# Altium integrated library Analog_Devices_Power_Management_Linear_Regulators.IntLib: 441 symbols (part 2 of 23)
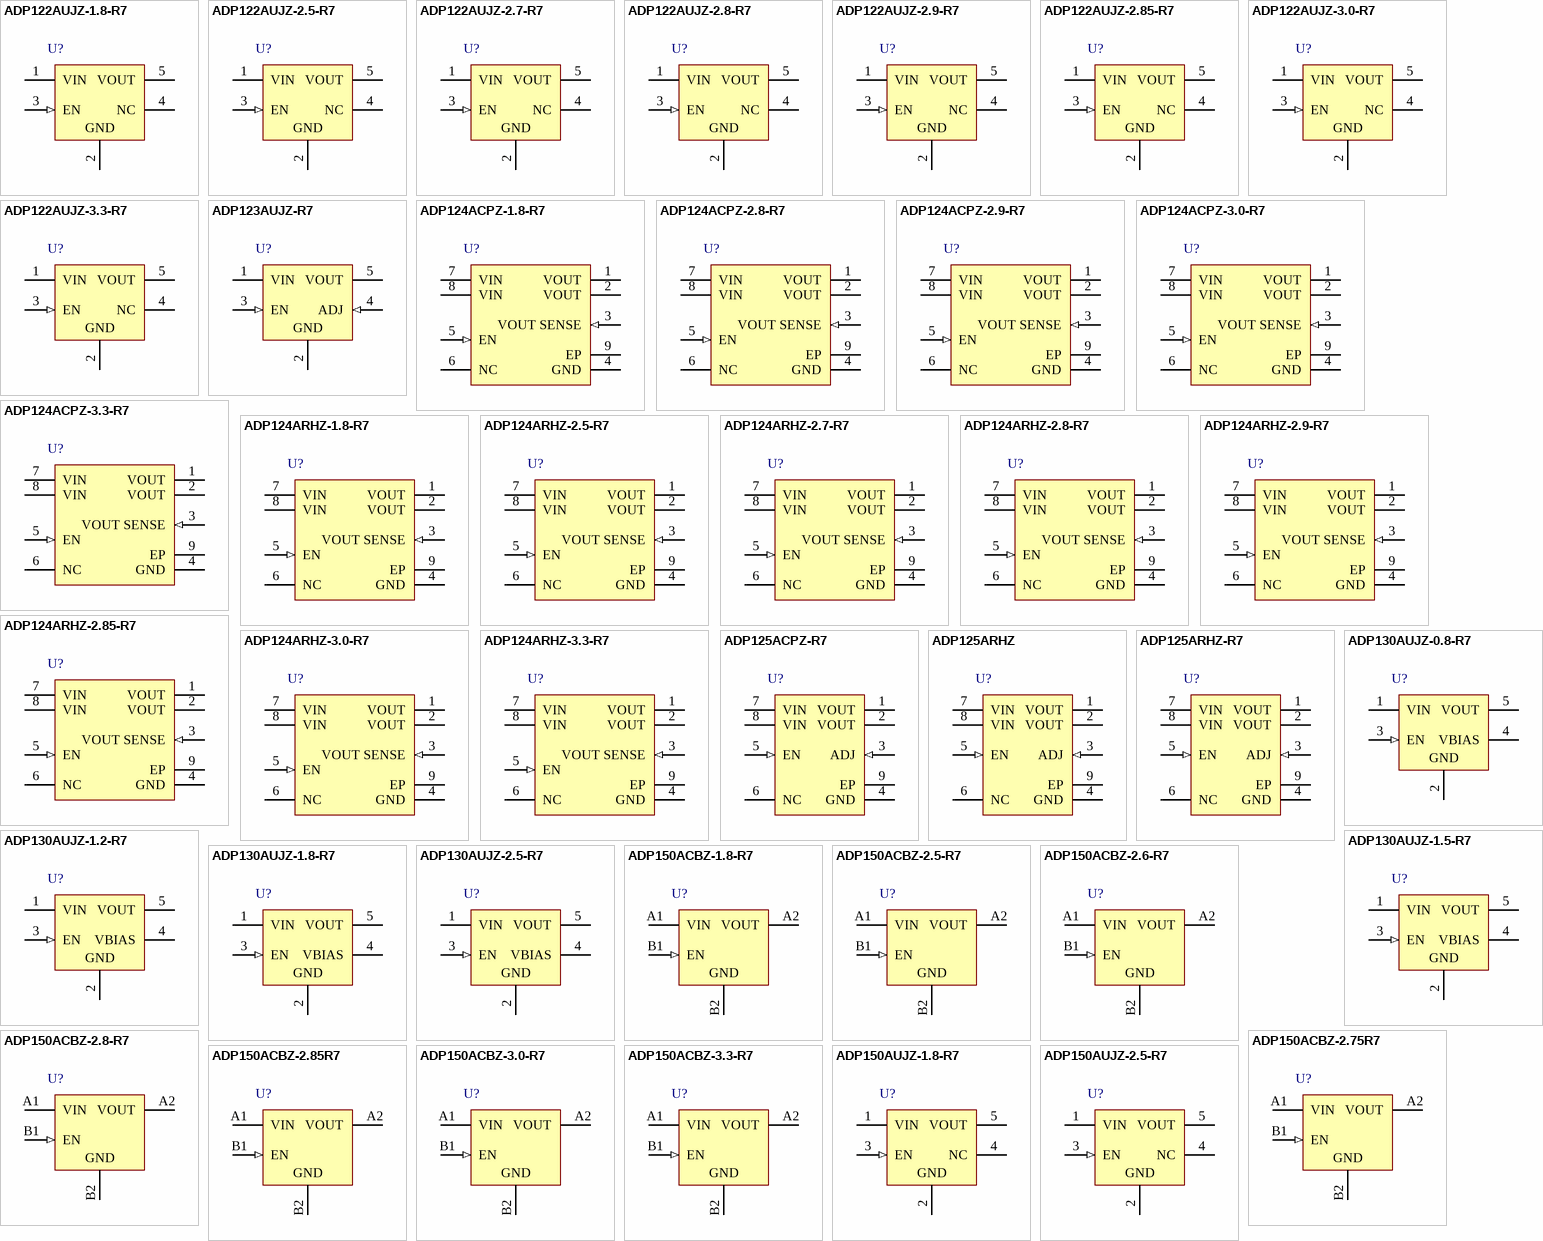
[diagram p12: symbols ADP122AUJZ-1.8-R7 to ADP150AUJZ-2.5-R7]

## ADP124ARHZ-3.3-R7
designator U?
500 mA, Low Quiescent Current, CMOS Linear Regulator, 2.3 to 5.5 V Vin, 3.3 V Vout, Industrial, 8-pin SOP (RH-8-1), Reel; Manufacturer: Analog Devices; PartNumber: ADP124ARHZ-3.3-R7; Iout max: 500mA; Preset Vout Values (V): 3.3; Supply Current IGND @ Small Load: 45uA; Vin (max) (V): 5.5; Vin (min) (V): 2.3; DatasheetVersion: Rev. C; PackageVersion: 071008-A, 08/2008; PackageReference: RH-8-1; PackageDescription: 8-Pin Mini Small Outline Package, Body 3 x 3 mm, Pitch 0.65 mm; Supplier 1: Digi-Key; Supplier Part Number 1: ADP124ARHZ-3.3-R7TR-ND; Supplier 2: Digi-Key; Supplier Part Number 2: ADP124ARHZ-3.3-R7CT-ND; Supplier 3: Digi-Key; Supplier Part Number 3: ADP124ARHZ-3.3-R7DKR-ND; Supplier 4: Farnell; Supplier Part Number 4: 1827296; Supplier 5: Farnell; Supplier Part Number 5: 1827296RL; Supplier 6: Newark; Supplier Part Number 6: 69R7644; Supplier 7: Newark; Supplier Part Number 7: 63R9752; Supplier 8: Mouser; Supplier Part Number 8: 584-ADP124ARHZ-3.3R7; Packing: Reel; Mounting Technology: Surface Mount; Code_JEDEC: MO-187-AA-T; ComponentLink1Description: Manufacturer URL; ComponentLink1URL: http://www.analog.com/en/index.html; ComponentLink2Description: Datasheet; ComponentLink2URL: http://www.analog.com/static/imported-files/data_sheets/ADP124_125.pdf; ComponentLink3Description: Package Specification; ComponentLink3URL: http://www.analog.com/static/imported-files/packages/PKG_PDF/MSOP_ED(RH)/RH_8_1.pdf; ComponentLink4Description: URL Link1; ComponentLink4URL: Product URL:http://www.analog.com/en/ADP124/productSearch.html
footprint ADI-RH-8-1_N (SOP, 8-Leads, Body 3x3mm, Pitch 0.65mm, Thermal Pad 1.73x2.16mm, IPC Medium Density)
footprint ADI-RH-8-1_L (SOP, 8-Leads, Body 3x3mm, Pitch 0.65mm, Thermal Pad 1.73x2.16mm, IPC High Density)
footprint ADI-RH-8-1_M (SOP, 8-Leads, Body 3x3mm, Pitch 0.65mm, Thermal Pad 1.73x2.16mm, IPC Low Density)
pins: 1 VOUT (power) "Regulated Output Voltage. Bypass VOUT to GND with a 1 uF or greater capacitor.", 2 VOUT (power) "Regulated Output Voltage. Bypass VOUT to GND with a 1 uF or greater capacitor.", 3 VOUT SENSE (in) "Feedback Node for the Error Amplifier. Connect to VOUT", 4 GND (power) "Ground.", 5 EN (in) "Enable Input. Drive EN high to turn on the regulator; drive EN low to turn off the regulator. For automatic startup, connect EN to VIN.", 6 NC "No Connect. This pin is not connected internally.", 7 VIN (power) "Regulator Input Supply. Bypass VIN to GND with a 1 uF or greater capacitor.", 8 VIN (power) "Regulator Input Supply. Bypass VIN to GND with a 1 uF or greater capacitor.", 9 EP (power) "The exposed pad must be connected to ground."

## ADP125ACPZ-R7
designator U?
500 mA, Low Quiescent Current, CMOS Linear Regulator, 2.3 to 5.5 V Vin, 0.8 to 5 V Vout, Industrial, 8-pin SON (CP-8-8), Reel; Manufacturer: Analog Devices; PartNumber: ADP125ACPZ-R7; Iout max: 500mA; Supply Current IGND @ Small Load: 45uA; Vin (max) (V): 5.5; Vin (min) (V): 2.3; Vout Adjustable Range: 0.8V to 5V; DatasheetVersion: Rev. C; PackageVersion: 101028-A, 10/2008; PackageReference: CP-8-8; PackageDescription: 8-Pin Lead Frame Chip Scale Package, Body 2 x 2 mm, Pitch 0.5 mm; Supplier 1: Digi-Key; Supplier Part Number 1: ADP125ACPZ-R7TR-ND; Supplier 2: Digi-Key; Supplier Part Number 2: ADP125ACPZ-R7CT-ND; Supplier 3: Digi-Key; Supplier Part Number 3: ADP125ACPZ-R7DKR-ND; Supplier 4: Newark; Supplier Part Number 4: 18T2009; Supplier 5: Mouser; Supplier Part Number 5: 584-ADP125ACPZ-R7; Packing: Reel; Mounting Technology: Surface Mount; ComponentLink1Description: Manufacturer URL; ComponentLink1URL: http://www.analog.com/en/index.html; ComponentLink2Description: Datasheet; ComponentLink2URL: http://www.analog.com/static/imported-files/data_sheets/ADP124_125.pdf; ComponentLink3Description: Package Specification; ComponentLink3URL: http:/www.analog.com/static/imported-files/packages/PKG_PDF/LFCSP(CP)/CP_8_8.pdf; ComponentLink4Description: URL Link1; ComponentLink4URL: Product URL:http://www.analog.com/en/ADP125/productSearch.html
footprint ADI-CP-8-8_V (SON, 8-Leads, Body 2x2mm, Pitch 0.5mm, Thermal Pad 1.6x1mm)
pins: 1 VOUT (power) "Regulated Output Voltage. Bypass VOUT to GND with a 1 uF or greater capacitor.", 2 VOUT (power) "Regulated Output Voltage. Bypass VOUT to GND with a 1 uF or greater capacitor.", 3 ADJ (in) "Feedback Node for the Error Amplifier. Connect the midpoint of an external divider from VOUT to GND to this pin to set the output voltage", 4 GND (power) "Ground.", 5 EN (in) "Enable Input. Drive EN high to turn on the regulator; drive EN low to turn off the regulator. For automatic startup, connect EN to VIN.", 6 NC "No Connect. This pin is not connected internally.", 7 VIN (power) "Regulator Input Supply. Bypass VIN to GND with a 1 uF or greater capacitor.", 8 VIN (power) "Regulator Input Supply. Bypass VIN to GND with a 1 uF or greater capacitor.", 9 EP (power) "The exposed pad must be connected to ground."

## ADP125ARHZ
designator U?
500 mA, Low Quiescent Current, CMOS Linear Regulator, 2.3 to 5.5 V Vin, 0.8 to 5 V Vout, Industrial, 8-pin SOP (RH-8-1), Tube; Manufacturer: Analog Devices; PartNumber: ADP125ARHZ; Iout max: 500mA; Supply Current IGND @ Small Load: 45uA; Vin (max) (V): 5.5; Vin (min) (V): 2.3; Vout Adjustable Range: 0.8V to 5V; DatasheetVersion: Rev. C; PackageVersion: 071008-A, 08/2008; PackageReference: RH-8-1; PackageDescription: 8-Pin Mini Small Outline Package, Body 3 x 3 mm, Pitch 0.65 mm; Supplier 1: Digi-Key; Supplier Part Number 1: ADP125ARHZ-ND; Supplier 2: Mouser; Supplier Part Number 2: 584-ADP125ARHZ; Packing: Tube; Mounting Technology: Surface Mount; Code_JEDEC: MO-187-AA-T; ComponentLink1Description: Manufacturer URL; ComponentLink1URL: http://www.analog.com/en/index.html; ComponentLink2Description: Datasheet; ComponentLink2URL: http://www.analog.com/static/imported-files/data_sheets/ADP124_125.pdf; ComponentLink3Description: Package Specification; ComponentLink3URL: http://www.analog.com/static/imported-files/packages/PKG_PDF/MSOP_ED(RH)/RH_8_1.pdf; ComponentLink4Description: URL Link1; ComponentLink4URL: Product URL:http://www.analog.com/en/ADP125/productSearch.html
footprint ADI-RH-8-1_N (SOP, 8-Leads, Body 3x3mm, Pitch 0.65mm, Thermal Pad 1.73x2.16mm, IPC Medium Density)
footprint ADI-RH-8-1_L (SOP, 8-Leads, Body 3x3mm, Pitch 0.65mm, Thermal Pad 1.73x2.16mm, IPC High Density)
footprint ADI-RH-8-1_M (SOP, 8-Leads, Body 3x3mm, Pitch 0.65mm, Thermal Pad 1.73x2.16mm, IPC Low Density)
pins: 1 VOUT (power) "Regulated Output Voltage. Bypass VOUT to GND with a 1 uF or greater capacitor.", 2 VOUT (power) "Regulated Output Voltage. Bypass VOUT to GND with a 1 uF or greater capacitor.", 3 ADJ (in) "Feedback Node for the Error Amplifier. Connect the midpoint of an external divider from VOUT to GND to this pin to set the output voltage", 4 GND (power) "Ground.", 5 EN (in) "Enable Input. Drive EN high to turn on the regulator; drive EN low to turn off the regulator. For automatic startup, connect EN to VIN.", 6 NC "No Connect. This pin is not connected internally.", 7 VIN (power) "Regulator Input Supply. Bypass VIN to GND with a 1 uF or greater capacitor.", 8 VIN (power) "Regulator Input Supply. Bypass VIN to GND with a 1 uF or greater capacitor.", 9 EP (power) "The exposed pad must be connected to ground."

## ADP125ARHZ-R7
designator U?
500 mA, Low Quiescent Current, CMOS Linear Regulator, 2.3 to 5.5 V Vin, 0.8 to 5 V Vout, Industrial, 8-pin SOP (RH-8-1), Reel; Manufacturer: Analog Devices; PartNumber: ADP125ARHZ-R7; Iout max: 500mA; Supply Current IGND @ Small Load: 45uA; Vin (max) (V): 5.5; Vin (min) (V): 2.3; Vout Adjustable Range: 0.8V to 5V; DatasheetVersion: Rev. C; PackageVersion: 071008-A, 08/2008; PackageReference: RH-8-1; PackageDescription: 8-Pin Mini Small Outline Package, Body 3 x 3 mm, Pitch 0.65 mm; Supplier 1: Digi-Key; Supplier Part Number 1: ADP125ARHZ-R7TR-ND; Supplier 2: Digi-Key; Supplier Part Number 2: ADP125ARHZ-R7CT-ND; Supplier 3: Digi-Key; Supplier Part Number 3: ADP125ARHZ-R7DKR-ND; Supplier 4: Farnell; Supplier Part Number 4: 1827298; Supplier 5: Newark; Supplier Part Number 5: 81R1681; Supplier 6: Newark; Supplier Part Number 6: 63R9754; Supplier 7: Mouser; Supplier Part Number 7: 584-ADP125ARHZ-R7; Packing: Reel; Mounting Technology: Surface Mount; Code_JEDEC: MO-187-AA-T; ComponentLink1Description: Manufacturer URL; ComponentLink1URL: http://www.analog.com/en/index.html; ComponentLink2Description: Datasheet; ComponentLink2URL: http://www.analog.com/static/imported-files/data_sheets/ADP124_125.pdf; ComponentLink3Description: Package Specification; ComponentLink3URL: http://www.analog.com/static/imported-files/packages/PKG_PDF/MSOP_ED(RH)/RH_8_1.pdf; ComponentLink4Description: URL Link1; ComponentLink4URL: Product URL:http://www.analog.com/en/ADP125/productSearch.html
footprint ADI-RH-8-1_N (SOP, 8-Leads, Body 3x3mm, Pitch 0.65mm, Thermal Pad 1.73x2.16mm, IPC Medium Density)
footprint ADI-RH-8-1_L (SOP, 8-Leads, Body 3x3mm, Pitch 0.65mm, Thermal Pad 1.73x2.16mm, IPC High Density)
footprint ADI-RH-8-1_M (SOP, 8-Leads, Body 3x3mm, Pitch 0.65mm, Thermal Pad 1.73x2.16mm, IPC Low Density)
pins: 1 VOUT (power) "Regulated Output Voltage. Bypass VOUT to GND with a 1 uF or greater capacitor.", 2 VOUT (power) "Regulated Output Voltage. Bypass VOUT to GND with a 1 uF or greater capacitor.", 3 ADJ (in) "Feedback Node for the Error Amplifier. Connect the midpoint of an external divider from VOUT to GND to this pin to set the output voltage", 4 GND (power) "Ground.", 5 EN (in) "Enable Input. Drive EN high to turn on the regulator; drive EN low to turn off the regulator. For automatic startup, connect EN to VIN.", 6 NC "No Connect. This pin is not connected internally.", 7 VIN (power) "Regulator Input Supply. Bypass VIN to GND with a 1 uF or greater capacitor.", 8 VIN (power) "Regulator Input Supply. Bypass VIN to GND with a 1 uF or greater capacitor.", 9 EP (power) "The exposed pad must be connected to ground."

## ADP130AUJZ-0.8-R7
designator U?
350 mA, Low VIN, Low Quiescent Current, CMOS Linear Regulator, 1.2 to 3.6 V Vin, 0.8 V Vout, Industrial, 5-pin SOT23 (UJ-5), Reel; Manufacturer: Analog Devices; PartNumber: ADP130AUJZ-0.8-R7; Iout max: 350mA; Preset Vout Values (V): 0.8; Supply Current IGND @ Small Load: 25uA; Vin (max) (V): 3.6; Vin (min) (V): 1.2; DatasheetVersion: Rev. C; PackageVersion: 100708-A, 10/2008; PackageReference: UJ-5; PackageDescription: 5-Pin Thin Small Outline Transistor Package, Body 2.9 x 1.6 mm, Pitch 0.95 mm; Supplier 1: Digi-Key; Supplier Part Number 1: ADP130AUJZ-0.8-R7TR-ND; Supplier 2: Digi-Key; Supplier Part Number 2: ADP130AUJZ-0.8-R7CT-ND; Supplier 3: Digi-Key; Supplier Part Number 3: ADP130AUJZ-0.8-R7DKR-ND; Supplier 4: Mouser; Supplier Part Number 4: 584-ADP130AUJZ-0.8R7; Packing: Reel; Mounting Technology: Surface Mount; Code_JEDEC: MO-193-AB; ComponentLink1Description: Manufacturer URL; ComponentLink1URL: http://www.analog.com/en/index.html; ComponentLink2Description: Datasheet; ComponentLink2URL: http://www.analog.com/static/imported-files/data_sheets/ADP130.pdf; ComponentLink3Description: Package Specification; ComponentLink3URL: http:/www.analog.com/static/imported-files/packages/PKG_PDF/TSOT(UJ)/UJ_5.pdf; ComponentLink4Description: URL Link1; ComponentLink4URL: Product URL:http://www.analog.com/en/ADP130/productSearch.html
footprint ADI-UJ-5_N (SOT23, 5-Leads, Body 2.9x1.6mm, Pitch 0.95mm, IPC Medium Density)
footprint ADI-UJ-5_L (SOT23, 5-Leads, Body 2.9x1.6mm, Pitch 0.95mm, IPC High Density)
footprint ADI-UJ-5_M (SOT23, 5-Leads, Body 2.9x1.6mm, Pitch 0.95mm, IPC Low Density)
pins: 1 VIN (power) "Regulator Input Supply. Bypass VIN to GND with a capacitor of 1 uF or greater.", 2 GND (power) "Ground.", 3 EN (in) "Enable Input. Drive EN high to turn on the regulator; drive EN low to turn off the regulator. For automatic startup, connect EN to VBIAS", 4 VBIAS (power) "Bias Input Supply. Connect a capacitor of 1 uF or greater between VBIAS and GND.", 5 VOUT (power) "Regulated Output Voltage. Bypass VOUT to GND with a capacitor of 1 uF or greater."

## ADP130AUJZ-1.2-R7
designator U?
350 mA, Low VIN, Low Quiescent Current, CMOS Linear Regulator, 1.2 to 3.6 V Vin, 1.2 V Vout, Industrial, 5-pin SOT23 (UJ-5), Reel; Manufacturer: Analog Devices; PartNumber: ADP130AUJZ-1.2-R7; Iout max: 350mA; Preset Vout Values (V): 1.2; Supply Current IGND @ Small Load: 25uA; Vin (max) (V): 3.6; DatasheetVersion: Rev. C; PackageVersion: 100708-A, 10/2008; PackageReference: UJ-5; PackageDescription: 5-Pin Thin Small Outline Transistor Package, Body 2.9 x 1.6 mm, Pitch 0.95 mm; Supplier 1: Digi-Key; Supplier Part Number 1: ADP130AUJZ-1.2-R7TR-ND; Supplier 2: Digi-Key; Supplier Part Number 2: ADP130AUJZ-1.2-R7CT-ND; Supplier 3: Digi-Key; Supplier Part Number 3: ADP130AUJZ-1.2-R7DKR-ND; Supplier 4: Farnell; Supplier Part Number 4: 2312870; Supplier 5: Newark; Supplier Part Number 5: 07P8899; Supplier 6: Newark; Supplier Part Number 6: 67W2683; Supplier 7: Mouser; Supplier Part Number 7: 584-ADP130AUJZ-1.2R7; Packing: Reel; Vin (min) (V): 1.2; Mounting Technology: Surface Mount; Code_JEDEC: MO-193-AB; ComponentLink1Description: Manufacturer URL; ComponentLink1URL: http://www.analog.com/en/index.html; ComponentLink2Description: Datasheet; ComponentLink2URL: http://www.analog.com/static/imported-files/data_sheets/ADP130.pdf; ComponentLink3Description: Package Specification; ComponentLink3URL: http:/www.analog.com/static/imported-files/packages/PKG_PDF/TSOT(UJ)/UJ_5.pdf; ComponentLink4Description: URL Link1; ComponentLink4URL: Product URL:http://www.analog.com/en/ADP130/productSearch.html
footprint ADI-UJ-5_N (SOT23, 5-Leads, Body 2.9x1.6mm, Pitch 0.95mm, IPC Medium Density)
footprint ADI-UJ-5_L (SOT23, 5-Leads, Body 2.9x1.6mm, Pitch 0.95mm, IPC High Density)
footprint ADI-UJ-5_M (SOT23, 5-Leads, Body 2.9x1.6mm, Pitch 0.95mm, IPC Low Density)
pins: 1 VIN (power) "Regulator Input Supply. Bypass VIN to GND with a capacitor of 1 uF or greater.", 2 GND (power) "Ground.", 3 EN (in) "Enable Input. Drive EN high to turn on the regulator; drive EN low to turn off the regulator. For automatic startup, connect EN to VBIAS", 4 VBIAS (power) "Bias Input Supply. Connect a capacitor of 1 uF or greater between VBIAS and GND.", 5 VOUT (power) "Regulated Output Voltage. Bypass VOUT to GND with a capacitor of 1 uF or greater."

## ADP130AUJZ-1.5-R7
designator U?
350 mA, Low VIN, Low Quiescent Current, CMOS Linear Regulator, 1.2 to 3.6 V Vin, 1.5 V Vout, Industrial, 5-pin SOT23 (UJ-5), Reel; Manufacturer: Analog Devices; PartNumber: ADP130AUJZ-1.5-R7; Iout max: 350mA; Preset Vout Values (V): 1.5; Supply Current IGND @ Small Load: 25uA; Vin (max) (V): 3.6; Vin (min) (V): 1.2; DatasheetVersion: Rev. C; PackageVersion: 100708-A, 10/2008; PackageReference: UJ-5; PackageDescription: 5-Pin Thin Small Outline Transistor Package, Body 2.9 x 1.6 mm, Pitch 0.95 mm; Supplier 1: Digi-Key; Supplier Part Number 1: ADP130AUJZ-1.5-R7TR-ND; Supplier 2: Digi-Key; Supplier Part Number 2: ADP130AUJZ-1.5-R7CT-ND; Supplier 3: Digi-Key; Supplier Part Number 3: ADP130AUJZ-1.5-R7DKR-ND; Supplier 4: Newark; Supplier Part Number 4: 07P8900; Supplier 5: Mouser; Supplier Part Number 5: 584-ADP130AUJZ-1.5R7; Packing: Reel; Mounting Technology: Surface Mount; Code_JEDEC: MO-193-AB; ComponentLink1Description: Manufacturer URL; ComponentLink1URL: http://www.analog.com/en/index.html; ComponentLink2Description: Datasheet; ComponentLink2URL: http://www.analog.com/static/imported-files/data_sheets/ADP130.pdf; ComponentLink3Description: Package Specification; ComponentLink3URL: http:/www.analog.com/static/imported-files/packages/PKG_PDF/TSOT(UJ)/UJ_5.pdf; ComponentLink4Description: URL Link1; ComponentLink4URL: Product URL:http://www.analog.com/en/ADP130/productSearch.html
footprint ADI-UJ-5_N (SOT23, 5-Leads, Body 2.9x1.6mm, Pitch 0.95mm, IPC Medium Density)
footprint ADI-UJ-5_L (SOT23, 5-Leads, Body 2.9x1.6mm, Pitch 0.95mm, IPC High Density)
footprint ADI-UJ-5_M (SOT23, 5-Leads, Body 2.9x1.6mm, Pitch 0.95mm, IPC Low Density)
pins: 1 VIN (power) "Regulator Input Supply. Bypass VIN to GND with a capacitor of 1 uF or greater.", 2 GND (power) "Ground.", 3 EN (in) "Enable Input. Drive EN high to turn on the regulator; drive EN low to turn off the regulator. For automatic startup, connect EN to VBIAS", 4 VBIAS (power) "Bias Input Supply. Connect a capacitor of 1 uF or greater between VBIAS and GND.", 5 VOUT (power) "Regulated Output Voltage. Bypass VOUT to GND with a capacitor of 1 uF or greater."

## ADP130AUJZ-1.8-R7
designator U?
350 mA, Low VIN, Low Quiescent Current, CMOS Linear Regulator, 1.2 to 3.6 V Vin, 1.8 V Vout, Industrial, 5-pin SOT23 (UJ-5), Reel; Manufacturer: Analog Devices; PartNumber: ADP130AUJZ-1.8-R7; Iout max: 350mA; Preset Vout Values (V): 1.8; Supply Current IGND @ Small Load: 25uA; Vin (max) (V): 3.6; Vin (min) (V): 1.2; DatasheetVersion: Rev. C; PackageVersion: 100708-A, 10/2008; PackageReference: UJ-5; PackageDescription: 5-Pin Thin Small Outline Transistor Package, Body 2.9 x 1.6 mm, Pitch 0.95 mm; Supplier 1: Digi-Key; Supplier Part Number 1: ADP130AUJZ-1.8-R7TR-ND; Supplier 2: Digi-Key; Supplier Part Number 2: ADP130AUJZ-1.8-R7CT-ND; Supplier 3: Digi-Key; Supplier Part Number 3: ADP130AUJZ-1.8-R7DKR-ND; Supplier 4: Newark; Supplier Part Number 4: 07P8901; Supplier 5: Mouser; Supplier Part Number 5: 584-ADP130AUJZ-1.8R7; Packing: Reel; Mounting Technology: Surface Mount; Code_JEDEC: MO-193-AB; ComponentLink1Description: Manufacturer URL; ComponentLink1URL: http://www.analog.com/en/index.html; ComponentLink2Description: Datasheet; ComponentLink2URL: http://www.analog.com/static/imported-files/data_sheets/ADP130.pdf; ComponentLink3Description: Package Specification; ComponentLink3URL: http:/www.analog.com/static/imported-files/packages/PKG_PDF/TSOT(UJ)/UJ_5.pdf; ComponentLink4Description: URL Link1; ComponentLink4URL: Product URL:http://www.analog.com/en/ADP130/productSearch.html
footprint ADI-UJ-5_N (SOT23, 5-Leads, Body 2.9x1.6mm, Pitch 0.95mm, IPC Medium Density)
footprint ADI-UJ-5_L (SOT23, 5-Leads, Body 2.9x1.6mm, Pitch 0.95mm, IPC High Density)
footprint ADI-UJ-5_M (SOT23, 5-Leads, Body 2.9x1.6mm, Pitch 0.95mm, IPC Low Density)
pins: 1 VIN (power) "Regulator Input Supply. Bypass VIN to GND with a capacitor of 1 uF or greater.", 2 GND (power) "Ground.", 3 EN (in) "Enable Input. Drive EN high to turn on the regulator; drive EN low to turn off the regulator. For automatic startup, connect EN to VBIAS", 4 VBIAS (power) "Bias Input Supply. Connect a capacitor of 1 uF or greater between VBIAS and GND.", 5 VOUT (power) "Regulated Output Voltage. Bypass VOUT to GND with a capacitor of 1 uF or greater."

## ADP130AUJZ-2.5-R7
designator U?
350 mA, Low VIN, Low Quiescent Current, CMOS Linear Regulator, 1.2 to 3.6 V Vin, 2.5 V Vout, Industrial, 5-pin SOT23 (UJ-5), Reel; Manufacturer: Analog Devices; PartNumber: ADP130AUJZ-2.5-R7; Iout max: 350mA; Preset Vout Values (V): 2.5; Supply Current IGND @ Small Load: 25uA; Vin (max) (V): 3.6; Vin (min) (V): 1.2; DatasheetVersion: Rev. C; PackageVersion: 100708-A, 10/2008; PackageReference: UJ-5; PackageDescription: 5-Pin Thin Small Outline Transistor Package, Body 2.9 x 1.6 mm, Pitch 0.95 mm; Supplier 1: Digi-Key; Supplier Part Number 1: ADP130AUJZ-2.5-R7TR-ND; Supplier 2: Digi-Key; Supplier Part Number 2: ADP130AUJZ-2.5-R7CT-ND; Supplier 3: Digi-Key; Supplier Part Number 3: ADP130AUJZ-2.5-R7DKR-ND; Supplier 4: Newark; Supplier Part Number 4: 07P8902; Supplier 5: Newark; Supplier Part Number 5: 10R7025; Supplier 6: Mouser; Supplier Part Number 6: 584-ADP130AUJZ-2.5R7; Packing: Reel; Mounting Technology: Surface Mount; Code_JEDEC: MO-193-AB; ComponentLink1Description: Manufacturer URL; ComponentLink1URL: http://www.analog.com/en/index.html; ComponentLink2Description: Datasheet; ComponentLink2URL: http://www.analog.com/static/imported-files/data_sheets/ADP130.pdf; ComponentLink3Description: Package Specification; ComponentLink3URL: http:/www.analog.com/static/imported-files/packages/PKG_PDF/TSOT(UJ)/UJ_5.pdf; ComponentLink4Description: URL Link1; ComponentLink4URL: Product URL:http://www.analog.com/en/ADP130/productSearch.html
footprint ADI-UJ-5_N (SOT23, 5-Leads, Body 2.9x1.6mm, Pitch 0.95mm, IPC Medium Density)
footprint ADI-UJ-5_L (SOT23, 5-Leads, Body 2.9x1.6mm, Pitch 0.95mm, IPC High Density)
footprint ADI-UJ-5_M (SOT23, 5-Leads, Body 2.9x1.6mm, Pitch 0.95mm, IPC Low Density)
pins: 1 VIN (power) "Regulator Input Supply. Bypass VIN to GND with a capacitor of 1 uF or greater.", 2 GND (power) "Ground.", 3 EN (in) "Enable Input. Drive EN high to turn on the regulator; drive EN low to turn off the regulator. For automatic startup, connect EN to VBIAS", 4 VBIAS (power) "Bias Input Supply. Connect a capacitor of 1 uF or greater between VBIAS and GND.", 5 VOUT (power) "Regulated Output Voltage. Bypass VOUT to GND with a capacitor of 1 uF or greater."

## ADP150ACBZ-1.8-R7
designator U?
Ultralow Noise, 150 mA CMOS Linear Regulator, 2.2 to 5.5 V Vin, 1.8 V Vout, Industrial, 4-pin BGA (CB-4-3), Reel; Manufacturer: Analog Devices; PartNumber: ADP150ACBZ-1.8-R7; Iout max: 150mA; Preset Vout Values (V): 1.8; Supply Current IGND @ Small Load: 10uA; Vin (max) (V): 5.5; Vin (min) (V): 2.2; DatasheetVersion: Rev. A; PackageVersion: 011409-A, 01/2009; PackageReference: CB-4-3; PackageDescription: 4-Ball Wafer Level Chip Scale Package, Body 0.76 x 0.76 mm, Pitch 0.4 mm; Supplier 1: Digi-Key; Supplier Part Number 1: ADP150ACBZ-1.8-R7TR-ND; Supplier 2: Digi-Key; Supplier Part Number 2: ADP150ACBZ-1.8-R7CT-ND; Supplier 3: Digi-Key; Supplier Part Number 3: ADP150ACBZ-1.8-R7DKR-ND; Supplier 4: Newark; Supplier Part Number 4: 23T4162; Supplier 5: Mouser; Supplier Part Number 5: 584-ADP150ACBZ-1.8R7; Packing: Reel; Mounting Technology: Surface Mount; ComponentLink1Description: Manufacturer URL; ComponentLink1URL: http://www.analog.com/en/index.html; ComponentLink2Description: Datasheet; ComponentLink2URL: http://www.analog.com/static/imported-files/data_sheets/ADP150.pdf; ComponentLink3Description: Package Specification; ComponentLink3URL: http:/www.analog.com/static/imported-files/packages/PKG_PDF/WLCSP(CB)/CB_4_3.pdf; ComponentLink4Description: URL Link1; ComponentLink4URL: Product URL:http://www.analog.com/en/ADP150/productSearch.html
footprint ADI-CB-4-3 (BGA, 4-Balls, Body 0.76x0.76mm, Pitch 0.4mm)
pins: A1 VIN (power) "Regulator Input Supply. Bypass VIN to GND with a 1 uF or greater capacitor", A2 VOUT (power) "Regulated Output Voltage. Bypass VOUT to GND with a 1 uF or greater capacitor", B1 EN (in) "Enable Input. Drive EN high to turn on the regulator; drive EN low to turn off the regulator. For automatic startup, connect EN to VIN.", B2 GND (power) "Ground"

## ADP150ACBZ-2.5-R7
designator U?
Ultralow Noise, 150 mA CMOS Linear Regulator, 2.2 to 5.5 V Vin, 2.5 V Vout, Industrial, 4-pin BGA (CB-4-3), Reel; Manufacturer: Analog Devices; PartNumber: ADP150ACBZ-2.5-R7; Iout max: 150mA; Preset Vout Values (V): 2.5; Supply Current IGND @ Small Load: 10uA; Vin (max) (V): 5.5; Vin (min) (V): 2.2; DatasheetVersion: Rev. A; PackageVersion: 011409-A, 01/2009; PackageReference: CB-4-3; PackageDescription: 4-Ball Wafer Level Chip Scale Package, Body 0.76 x 0.76 mm, Pitch 0.4 mm; Supplier 1: Digi-Key; Supplier Part Number 1: ADP150ACBZ-2.5-R7TR-ND; Supplier 2: Digi-Key; Supplier Part Number 2: ADP150ACBZ-2.5-R7CT-ND; Supplier 3: Digi-Key; Supplier Part Number 3: ADP150ACBZ-2.5-R7DKR-ND; Supplier 4: Newark; Supplier Part Number 4: 51R0670; Supplier 5: Mouser; Supplier Part Number 5: 584-ADP150ACBZ-2.5R7; Packing: Reel; Mounting Technology: Surface Mount; ComponentLink1Description: Manufacturer URL; ComponentLink1URL: http://www.analog.com/en/index.html; ComponentLink2Description: Datasheet; ComponentLink2URL: http://www.analog.com/static/imported-files/data_sheets/ADP150.pdf; ComponentLink3Description: Package Specification; ComponentLink3URL: http:/www.analog.com/static/imported-files/packages/PKG_PDF/WLCSP(CB)/CB_4_3.pdf; ComponentLink4Description: URL Link1; ComponentLink4URL: Product URL:http://www.analog.com/en/ADP150/productSearch.html
footprint ADI-CB-4-3 (BGA, 4-Balls, Body 0.76x0.76mm, Pitch 0.4mm)
pins: A1 VIN (power) "Regulator Input Supply. Bypass VIN to GND with a 1 uF or greater capacitor", A2 VOUT (power) "Regulated Output Voltage. Bypass VOUT to GND with a 1 uF or greater capacitor", B1 EN (in) "Enable Input. Drive EN high to turn on the regulator; drive EN low to turn off the regulator. For automatic startup, connect EN to VIN.", B2 GND (power) "Ground"

## ADP150ACBZ-2.6-R7
designator U?
Ultralow Noise, 150 mA CMOS Linear Regulator, 2.2 to 5.5 V Vin, 2.6 V Vout, Industrial, 4-pin BGA (CB-4-3), Reel; Manufacturer: Analog Devices; PartNumber: ADP150ACBZ-2.6-R7; Iout max: 150mA; Preset Vout Values (V): 2.6; Supply Current IGND @ Small Load: 10uA; Vin (max) (V): 5.5; Vin (min) (V): 2.2; DatasheetVersion: Rev. A; PackageVersion: 011409-A, 01/2009; PackageReference: CB-4-3; PackageDescription: 4-Ball Wafer Level Chip Scale Package, Body 0.76 x 0.76 mm, Pitch 0.4 mm; Supplier 1: Digi-Key; Supplier Part Number 1: ADP150ACBZ-2.6-R7TR-ND; Supplier 2: Digi-Key; Supplier Part Number 2: ADP150ACBZ-2.6-R7CT-ND; Supplier 3: Digi-Key; Supplier Part Number 3: ADP150ACBZ-2.6-R7DKR-ND; Supplier 4: Mouser; Supplier Part Number 4: 584-ADP150ACBZ-2.6R7; Packing: Reel; Mounting Technology: Surface Mount; ComponentLink1Description: Manufacturer URL; ComponentLink1URL: http://www.analog.com/en/index.html; ComponentLink2Description: Datasheet; ComponentLink2URL: http://www.analog.com/static/imported-files/data_sheets/ADP150.pdf; ComponentLink3Description: Package Specification; ComponentLink3URL: http:/www.analog.com/static/imported-files/packages/PKG_PDF/WLCSP(CB)/CB_4_3.pdf; ComponentLink4Description: URL Link1; ComponentLink4URL: Product URL:http://www.analog.com/en/ADP150/productSearch.html
footprint ADI-CB-4-3 (BGA, 4-Balls, Body 0.76x0.76mm, Pitch 0.4mm)
pins: A1 VIN (power) "Regulator Input Supply. Bypass VIN to GND with a 1 uF or greater capacitor", A2 VOUT (power) "Regulated Output Voltage. Bypass VOUT to GND with a 1 uF or greater capacitor", B1 EN (in) "Enable Input. Drive EN high to turn on the regulator; drive EN low to turn off the regulator. For automatic startup, connect EN to VIN.", B2 GND (power) "Ground"

## ADP150ACBZ-2.8-R7
designator U?
Ultralow Noise, 150 mA CMOS Linear Regulator, 2.2 to 5.5 V Vin, 2.8 V Vout, Industrial, 4-pin BGA (CB-4-3), Reel; Manufacturer: Analog Devices; PartNumber: ADP150ACBZ-2.8-R7; Iout max: 150mA; Preset Vout Values (V): 2.8; Supply Current IGND @ Small Load: 10uA; Vin (max) (V): 5.5; Vin (min) (V): 2.2; DatasheetVersion: Rev. A; PackageVersion: 011409-A, 01/2009; PackageReference: CB-4-3; PackageDescription: 4-Ball Wafer Level Chip Scale Package, Body 0.76 x 0.76 mm, Pitch 0.4 mm; Supplier 1: Digi-Key; Supplier Part Number 1: ADP150ACBZ-2.8-R7TR-ND; Supplier 2: Digi-Key; Supplier Part Number 2: ADP150ACBZ-2.8-R7CT-ND; Supplier 3: Digi-Key; Supplier Part Number 3: ADP150ACBZ-2.8-R7DKR-ND; Supplier 4: Newark; Supplier Part Number 4: 51R0671; Supplier 5: Mouser; Supplier Part Number 5: 584-ADP150ACBZ-2.8R7; Packing: Reel; Mounting Technology: Surface Mount; ComponentLink1Description: Manufacturer URL; ComponentLink1URL: http://www.analog.com/en/index.html; ComponentLink2Description: Datasheet; ComponentLink2URL: http://www.analog.com/static/imported-files/data_sheets/ADP150.pdf; ComponentLink3Description: Package Specification; ComponentLink3URL: http:/www.analog.com/static/imported-files/packages/PKG_PDF/WLCSP(CB)/CB_4_3.pdf; ComponentLink4Description: URL Link1; ComponentLink4URL: Product URL:http://www.analog.com/en/ADP150/productSearch.html
footprint ADI-CB-4-3 (BGA, 4-Balls, Body 0.76x0.76mm, Pitch 0.4mm)
pins: A1 VIN (power) "Regulator Input Supply. Bypass VIN to GND with a 1 uF or greater capacitor", A2 VOUT (power) "Regulated Output Voltage. Bypass VOUT to GND with a 1 uF or greater capacitor", B1 EN (in) "Enable Input. Drive EN high to turn on the regulator; drive EN low to turn off the regulator. For automatic startup, connect EN to VIN.", B2 GND (power) "Ground"

## ADP150ACBZ-2.75R7
designator U?
Ultralow Noise, 150 mA CMOS Linear Regulator, 2.2 to 5.5 V Vin, 2.75 V Vout, Industrial, 4-pin BGA (CB-4-3), Reel; Manufacturer: Analog Devices; PartNumber: ADP150ACBZ-2.75R7; Iout max: 150mA; Preset Vout Values (V): 2.75; Supply Current IGND @ Small Load: 10uA; Vin (max) (V): 5.5; Vin (min) (V): 2.2; DatasheetVersion: Rev. A; PackageVersion: 011409-A, 01/2009; PackageReference: CB-4-3; PackageDescription: 4-Ball Wafer Level Chip Scale Package, Body 0.76 x 0.76 mm, Pitch 0.4 mm; Supplier 1: Digi-Key; Supplier Part Number 1: ADP150ACBZ-2.75R7TR-ND; Supplier 2: Digi-Key; Supplier Part Number 2: ADP150ACBZ-2.75R7CT-ND; Supplier 3: Digi-Key; Supplier Part Number 3: ADP150ACBZ-2.75R7DKR-ND; Supplier 4: Mouser; Supplier Part Number 4: 584-ADP150ACBZ2.75R7; Packing: Reel; Mounting Technology: Surface Mount; ComponentLink1Description: Manufacturer URL; ComponentLink1URL: http://www.analog.com/en/index.html; ComponentLink2Description: Datasheet; ComponentLink2URL: http://www.analog.com/static/imported-files/data_sheets/ADP150.pdf; ComponentLink3Description: Package Specification; ComponentLink3URL: http:/www.analog.com/static/imported-files/packages/PKG_PDF/WLCSP(CB)/CB_4_3.pdf; ComponentLink4Description: URL Link1; ComponentLink4URL: Product URL:http://www.analog.com/en/ADP150/productSearch.html
footprint ADI-CB-4-3 (BGA, 4-Balls, Body 0.76x0.76mm, Pitch 0.4mm)
pins: A1 VIN (power) "Regulator Input Supply. Bypass VIN to GND with a 1 uF or greater capacitor", A2 VOUT (power) "Regulated Output Voltage. Bypass VOUT to GND with a 1 uF or greater capacitor", B1 EN (in) "Enable Input. Drive EN high to turn on the regulator; drive EN low to turn off the regulator. For automatic startup, connect EN to VIN.", B2 GND (power) "Ground"

## ADP150ACBZ-2.85R7
designator U?
Ultralow Noise, 150 mA CMOS Linear Regulator, 2.2 to 5.5 V Vin, 2.85 V Vout, Industrial, 4-pin BGA (CB-4-3), Reel; Manufacturer: Analog Devices; PartNumber: ADP150ACBZ-2.85R7; Iout max: 150mA; Preset Vout Values (V): 2.85; Supply Current IGND @ Small Load: 10uA; Vin (max) (V): 5.5; Vin (min) (V): 2.2; DatasheetVersion: Rev. A; PackageVersion: 011409-A, 01/2009; PackageReference: CB-4-3; PackageDescription: 4-Ball Wafer Level Chip Scale Package, Body 0.76 x 0.76 mm, Pitch 0.4 mm; Supplier 1: Digi-Key; Supplier Part Number 1: ADP150ACBZ-2.85R7TR-ND; Supplier 2: Digi-Key; Supplier Part Number 2: ADP150ACBZ-2.85R7CT-ND; Supplier 3: Digi-Key; Supplier Part Number 3: ADP150ACBZ-2.85R7DKR-ND; Supplier 4: Mouser; Supplier Part Number 4: 584-ADP150ACBZ2.85R7; Packing: Reel; Mounting Technology: Surface Mount; ComponentLink1Description: Manufacturer URL; ComponentLink1URL: http://www.analog.com/en/index.html; ComponentLink2Description: Datasheet; ComponentLink2URL: http://www.analog.com/static/imported-files/data_sheets/ADP150.pdf; ComponentLink3Description: Package Specification; ComponentLink3URL: http:/www.analog.com/static/imported-files/packages/PKG_PDF/WLCSP(CB)/CB_4_3.pdf; ComponentLink4Description: URL Link1; ComponentLink4URL: Product URL:http://www.analog.com/en/ADP150/productSearch.html
footprint ADI-CB-4-3 (BGA, 4-Balls, Body 0.76x0.76mm, Pitch 0.4mm)
pins: A1 VIN (power) "Regulator Input Supply. Bypass VIN to GND with a 1 uF or greater capacitor", A2 VOUT (power) "Regulated Output Voltage. Bypass VOUT to GND with a 1 uF or greater capacitor", B1 EN (in) "Enable Input. Drive EN high to turn on the regulator; drive EN low to turn off the regulator. For automatic startup, connect EN to VIN.", B2 GND (power) "Ground"

## ADP150ACBZ-3.0-R7
designator U?
Ultralow Noise, 150 mA CMOS Linear Regulator, 2.2 to 5.5 V Vin, 3 V Vout, Industrial, 4-pin BGA (CB-4-3), Reel; Manufacturer: Analog Devices; PartNumber: ADP150ACBZ-3.0-R7; Iout max: 150mA; Preset Vout Values (V): 3.0; Supply Current IGND @ Small Load: 10uA; Vin (max) (V): 5.5; Vin (min) (V): 2.2; DatasheetVersion: Rev. A; PackageVersion: 011409-A, 01/2009; PackageReference: CB-4-3; PackageDescription: 4-Ball Wafer Level Chip Scale Package, Body 0.76 x 0.76 mm, Pitch 0.4 mm; Supplier 1: Digi-Key; Supplier Part Number 1: ADP150ACBZ-3.0-R7TR-ND; Supplier 2: Digi-Key; Supplier Part Number 2: ADP150ACBZ-3.0-R7CT-ND; Supplier 3: Digi-Key; Supplier Part Number 3: ADP150ACBZ-3.0-R7DKR-ND; Supplier 4: Farnell; Supplier Part Number 4: 2312871; Supplier 5: Newark; Supplier Part Number 5: 51R0672; Supplier 6: Newark; Supplier Part Number 6: 67W2684; Supplier 7: Mouser; Supplier Part Number 7: 584-ADP150ACBZ-3.0R7; Packing: Reel; Mounting Technology: Surface Mount; ComponentLink1Description: Manufacturer URL; ComponentLink1URL: http://www.analog.com/en/index.html; ComponentLink2Description: Datasheet; ComponentLink2URL: http://www.analog.com/static/imported-files/data_sheets/ADP150.pdf; ComponentLink3Description: Package Specification; ComponentLink3URL: http:/www.analog.com/static/imported-files/packages/PKG_PDF/WLCSP(CB)/CB_4_3.pdf; ComponentLink4Description: URL Link1; ComponentLink4URL: Product URL:http://www.analog.com/en/ADP150/productSearch.html
footprint ADI-CB-4-3 (BGA, 4-Balls, Body 0.76x0.76mm, Pitch 0.4mm)
pins: A1 VIN (power) "Regulator Input Supply. Bypass VIN to GND with a 1 uF or greater capacitor", A2 VOUT (power) "Regulated Output Voltage. Bypass VOUT to GND with a 1 uF or greater capacitor", B1 EN (in) "Enable Input. Drive EN high to turn on the regulator; drive EN low to turn off the regulator. For automatic startup, connect EN to VIN.", B2 GND (power) "Ground"

## ADP150ACBZ-3.3-R7
designator U?
Ultralow Noise, 150 mA CMOS Linear Regulator, 2.2 to 5.5 V Vin, 3.3 V Vout, Industrial, 4-pin BGA (CB-4-3), Reel; Manufacturer: Analog Devices; PartNumber: ADP150ACBZ-3.3-R7; Iout max: 150mA; Preset Vout Values (V): 3.3; Supply Current IGND @ Small Load: 10uA; Vin (max) (V): 5.5; Vin (min) (V): 2.2; DatasheetVersion: Rev. A; PackageVersion: 011409-A, 01/2009; PackageReference: CB-4-3; PackageDescription: 4-Ball Wafer Level Chip Scale Package, Body 0.76 x 0.76 mm, Pitch 0.4 mm; Supplier 1: Digi-Key; Supplier Part Number 1: ADP150ACBZ-3.3-R7TR-ND; Supplier 2: Digi-Key; Supplier Part Number 2: ADP150ACBZ-3.3-R7CT-ND; Supplier 3: Digi-Key; Supplier Part Number 3: ADP150ACBZ-3.3-R7DKR-ND; Supplier 4: Farnell; Supplier Part Number 4: 2094214; Supplier 5: Newark; Supplier Part Number 5: 60R3275; Supplier 6: Mouser; Supplier Part Number 6: 584-ADP150ACBZ-3.3R7; Packing: Reel; Mounting Technology: Surface Mount; ComponentLink1Description: Manufacturer URL; ComponentLink1URL: http://www.analog.com/en/index.html; ComponentLink2Description: Datasheet; ComponentLink2URL: http://www.analog.com/static/imported-files/data_sheets/ADP150.pdf; ComponentLink3Description: Package Specification; ComponentLink3URL: http:/www.analog.com/static/imported-files/packages/PKG_PDF/WLCSP(CB)/CB_4_3.pdf; ComponentLink4Description: URL Link1; ComponentLink4URL: Product URL:http://www.analog.com/en/ADP150/productSearch.html
footprint ADI-CB-4-3 (BGA, 4-Balls, Body 0.76x0.76mm, Pitch 0.4mm)
pins: A1 VIN (power) "Regulator Input Supply. Bypass VIN to GND with a 1 uF or greater capacitor", A2 VOUT (power) "Regulated Output Voltage. Bypass VOUT to GND with a 1 uF or greater capacitor", B1 EN (in) "Enable Input. Drive EN high to turn on the regulator; drive EN low to turn off the regulator. For automatic startup, connect EN to VIN.", B2 GND (power) "Ground"

## ADP150AUJZ-1.8-R7
designator U?
Ultralow Noise, 150 mA CMOS Linear Regulator, 2.2 to 5.5 V Vin, 1.8 V Vout, Industrial, 5-pin SOT23 (UJ-5), Reel; Manufacturer: Analog Devices; PartNumber: ADP150AUJZ-1.8-R7; Iout max: 150mA; Preset Vout Values (V): 1.8; Supply Current IGND @ Small Load: 10uA; Vin (max) (V): 5.5; Vin (min) (V): 2.2; DatasheetVersion: Rev. A; PackageVersion: 100708-A, 10/2008; PackageReference: UJ-5; PackageDescription: 5-Pin Thin Small Outline Transistor Package, Body 2.9 x 1.6 mm, Pitch 0.95 mm; Supplier 1: Digi-Key; Supplier Part Number 1: ADP150AUJZ-1.8-R7TR-ND; Supplier 2: Digi-Key; Supplier Part Number 2: ADP150AUJZ-1.8-R7CT-ND; Supplier 3: Digi-Key; Supplier Part Number 3: ADP150AUJZ-1.8-R7DKR-ND; Supplier 4: Farnell; Supplier Part Number 4: 2312872; Supplier 5: Newark; Supplier Part Number 5: 51R0674; Supplier 6: Newark; Supplier Part Number 6: 67W2685; Supplier 7: Mouser; Supplier Part Number 7: 584-ADP150AUJZ-1.8R7; Packing: Reel; Mounting Technology: Surface Mount; Code_JEDEC: MO-193-AB; ComponentLink1Description: Manufacturer URL; ComponentLink1URL: http://www.analog.com/en/index.html; ComponentLink2Description: Datasheet; ComponentLink2URL: http://www.analog.com/static/imported-files/data_sheets/ADP150.pdf; ComponentLink3Description: Package Specification; ComponentLink3URL: http:/www.analog.com/static/imported-files/packages/PKG_PDF/TSOT(UJ)/UJ_5.pdf; ComponentLink4Description: URL Link1; ComponentLink4URL: Product URL:http://www.analog.com/en/ADP150/productSearch.html
footprint ADI-UJ-5_N (SOT23, 5-Leads, Body 2.9x1.6mm, Pitch 0.95mm, IPC Medium Density)
footprint ADI-UJ-5_L (SOT23, 5-Leads, Body 2.9x1.6mm, Pitch 0.95mm, IPC High Density)
footprint ADI-UJ-5_M (SOT23, 5-Leads, Body 2.9x1.6mm, Pitch 0.95mm, IPC Low Density)
pins: 1 VIN (power) "Regulator Input Supply. Bypass VIN to GND with a capacitor of at least 1 uF.", 2 GND (power) "Ground.", 3 EN (in) "Enable Input. Drive EN high to turn on the regulator; drive EN low to turn off the regulator. For automatic startup, connect EN to VIN.", 4 NC "No Connect. These pins are not internally bonded. They can be left floating or connected to ground.", 5 VOUT (power) "Regulated Output Voltage. Bypass VOUT to GND with a capacitor of at least 1 uF."

## ADP150AUJZ-2.5-R7
designator U?
Ultralow Noise, 150 mA CMOS Linear Regulator, 2.2 to 5.5 V Vin, 2.5 V Vout, Industrial, 5-pin SOT23 (UJ-5), Reel; Manufacturer: Analog Devices; PartNumber: ADP150AUJZ-2.5-R7; Iout max: 150mA; Preset Vout Values (V): 2.5; Supply Current IGND @ Small Load: 10uA; Vin (max) (V): 5.5; Vin (min) (V): 2.2; DatasheetVersion: Rev. A; PackageVersion: 100708-A, 10/2008; PackageReference: UJ-5; PackageDescription: 5-Pin Thin Small Outline Transistor Package, Body 2.9 x 1.6 mm, Pitch 0.95 mm; Supplier 1: Digi-Key; Supplier Part Number 1: ADP150AUJZ-2.5-R7TR-ND; Supplier 2: Digi-Key; Supplier Part Number 2: ADP150AUJZ-2.5-R7CT-ND; Supplier 3: Digi-Key; Supplier Part Number 3: ADP150AUJZ-2.5-R7DKR-ND; Supplier 4: Farnell; Supplier Part Number 4: 2312873; Supplier 5: Newark; Supplier Part Number 5: 51R0675; Supplier 6: Newark; Supplier Part Number 6: 67W2686; Supplier 7: Mouser; Supplier Part Number 7: 584-ADP150AUJZ-2.5R7; Packing: Reel; Mounting Technology: Surface Mount; Code_JEDEC: MO-193-AB; ComponentLink1Description: Manufacturer URL; ComponentLink1URL: http://www.analog.com/en/index.html; ComponentLink2Description: Datasheet; ComponentLink2URL: http://www.analog.com/static/imported-files/data_sheets/ADP150.pdf; ComponentLink3Description: Package Specification; ComponentLink3URL: http:/www.analog.com/static/imported-files/packages/PKG_PDF/TSOT(UJ)/UJ_5.pdf; ComponentLink4Description: URL Link1; ComponentLink4URL: Product URL:http://www.analog.com/en/ADP150/productSearch.html
footprint ADI-UJ-5_N (SOT23, 5-Leads, Body 2.9x1.6mm, Pitch 0.95mm, IPC Medium Density)
footprint ADI-UJ-5_L (SOT23, 5-Leads, Body 2.9x1.6mm, Pitch 0.95mm, IPC High Density)
footprint ADI-UJ-5_M (SOT23, 5-Leads, Body 2.9x1.6mm, Pitch 0.95mm, IPC Low Density)
pins: 1 VIN (power) "Regulator Input Supply. Bypass VIN to GND with a capacitor of at least 1 uF.", 2 GND (power) "Ground.", 3 EN (in) "Enable Input. Drive EN high to turn on the regulator; drive EN low to turn off the regulator. For automatic startup, connect EN to VIN.", 4 NC "No Connect. These pins are not internally bonded. They can be left floating or connected to ground.", 5 VOUT (power) "Regulated Output Voltage. Bypass VOUT to GND with a capacitor of at least 1 uF."

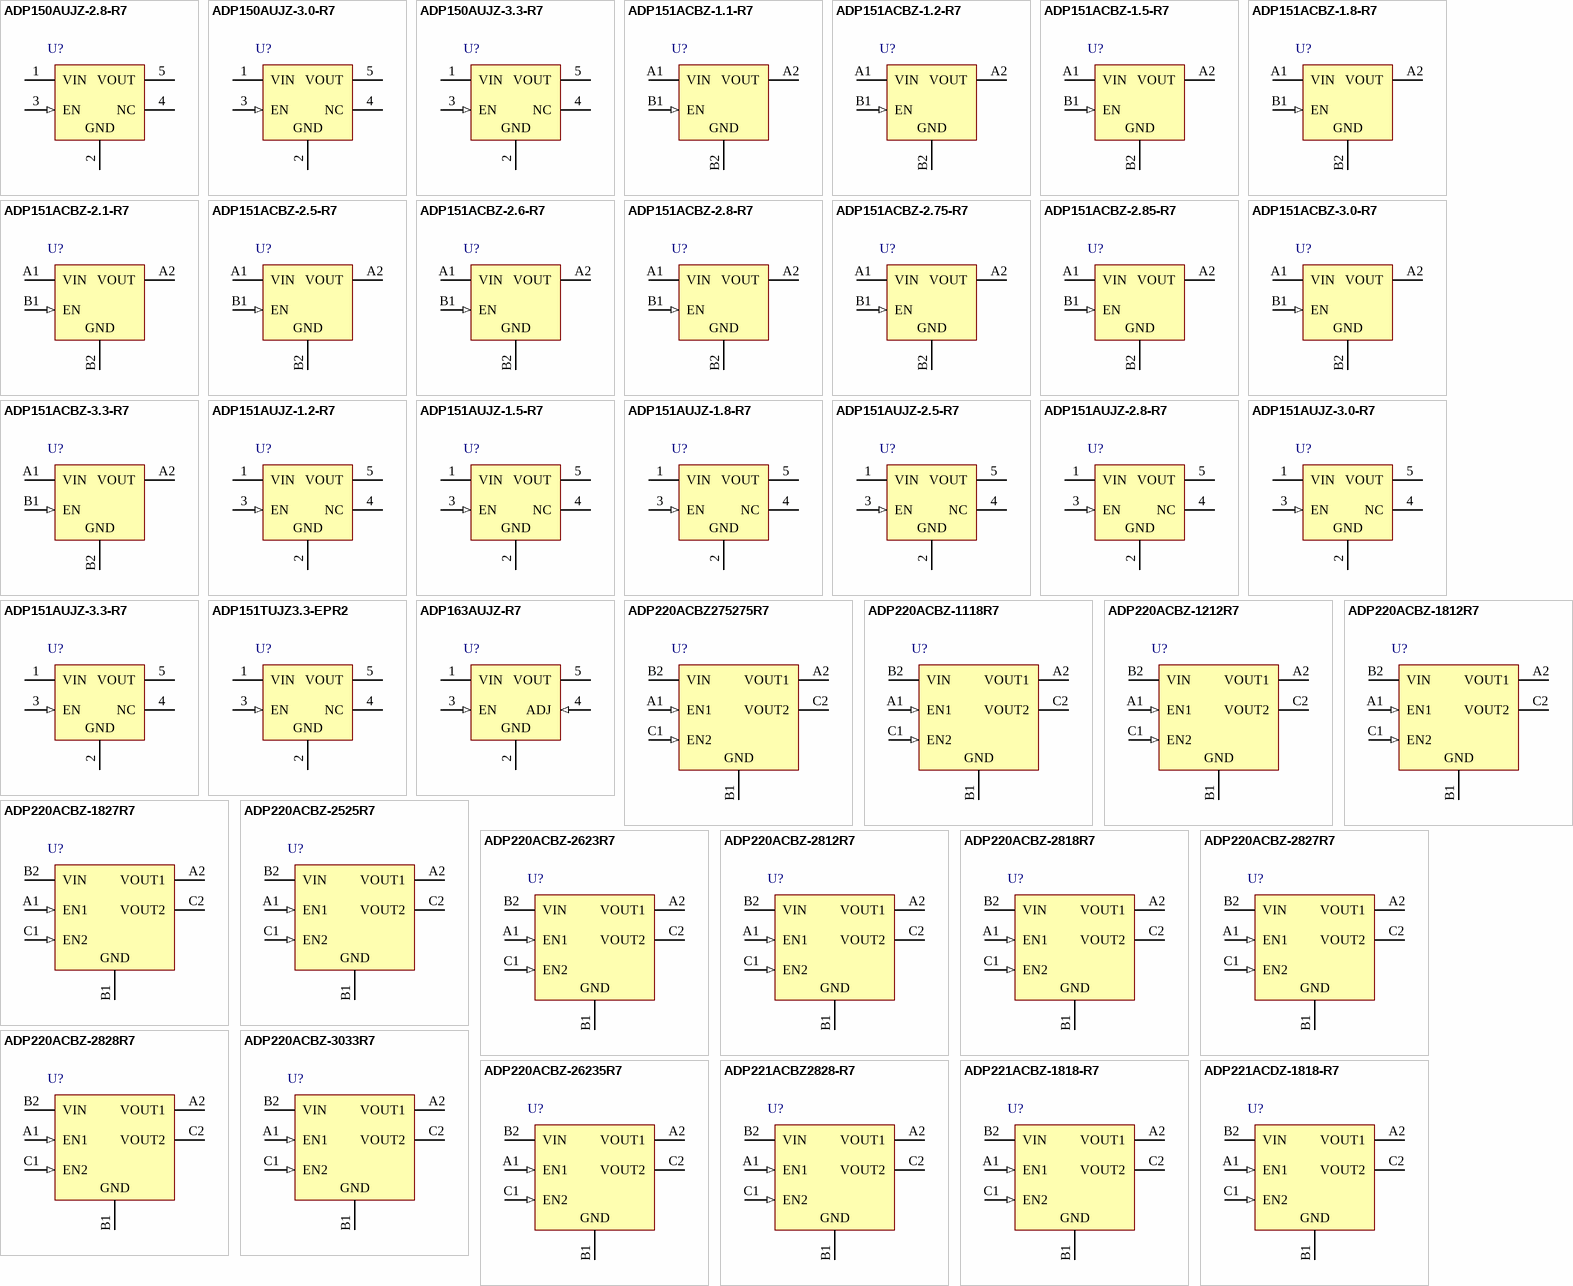
[diagram p1: symbols ADP150AUJZ-2.8-R7 to ADP221ACDZ-1818-R7]

## ADP150AUJZ-2.8-R7
designator U?
Ultralow Noise, 150 mA CMOS Linear Regulator, 2.2 to 5.5 V Vin, 2.8 V Vout, Industrial, 5-pin SOT23 (UJ-5), Reel; Manufacturer: Analog Devices; PartNumber: ADP150AUJZ-2.8-R7; Iout max: 150mA; Preset Vout Values (V): 2.8; Supply Current IGND @ Small Load: 10uA; Vin (max) (V): 5.5; Vin (min) (V): 2.2; DatasheetVersion: Rev. A; PackageVersion: 100708-A, 10/2008; PackageReference: UJ-5; PackageDescription: 5-Pin Thin Small Outline Transistor Package, Body 2.9 x 1.6 mm, Pitch 0.95 mm; Supplier 1: Digi-Key; Supplier Part Number 1: ADP150AUJZ-2.8-R7TR-ND; Supplier 2: Digi-Key; Supplier Part Number 2: ADP150AUJZ-2.8-R7CT-ND; Supplier 3: Digi-Key; Supplier Part Number 3: ADP150AUJZ-2.8-R7DKR-ND; Supplier 4: Farnell; Supplier Part Number 4: 2312874; Supplier 5: Newark; Supplier Part Number 5: 51R0676; Supplier 6: Newark; Supplier Part Number 6: 67W2687; Supplier 7: Mouser; Supplier Part Number 7: 584-ADP150AUJZ-2.8R7; Packing: Reel; Mounting Technology: Surface Mount; Code_JEDEC: MO-193-AB; ComponentLink1Description: Manufacturer URL; ComponentLink1URL: http://www.analog.com/en/index.html; ComponentLink2Description: Datasheet; ComponentLink2URL: http://www.analog.com/static/imported-files/data_sheets/ADP150.pdf; ComponentLink3Description: Package Specification; ComponentLink3URL: http:/www.analog.com/static/imported-files/packages/PKG_PDF/TSOT(UJ)/UJ_5.pdf; ComponentLink4Description: URL Link1; ComponentLink4URL: Product URL:http://www.analog.com/en/ADP150/productSearch.html
footprint ADI-UJ-5_N (SOT23, 5-Leads, Body 2.9x1.6mm, Pitch 0.95mm, IPC Medium Density)
footprint ADI-UJ-5_L (SOT23, 5-Leads, Body 2.9x1.6mm, Pitch 0.95mm, IPC High Density)
footprint ADI-UJ-5_M (SOT23, 5-Leads, Body 2.9x1.6mm, Pitch 0.95mm, IPC Low Density)
pins: 1 VIN (power) "Regulator Input Supply. Bypass VIN to GND with a capacitor of at least 1 uF.", 2 GND (power) "Ground.", 3 EN (in) "Enable Input. Drive EN high to turn on the regulator; drive EN low to turn off the regulator. For automatic startup, connect EN to VIN.", 4 NC "No Connect. These pins are not internally bonded. They can be left floating or connected to ground.", 5 VOUT (power) "Regulated Output Voltage. Bypass VOUT to GND with a capacitor of at least 1 uF."

## ADP150AUJZ-3.0-R7
designator U?
Ultralow Noise, 150 mA CMOS Linear Regulator, 2.2 to 5.5 V Vin, 3 V Vout, Industrial, 5-pin SOT23 (UJ-5), Reel; Manufacturer: Analog Devices; PartNumber: ADP150AUJZ-3.0-R7; Iout max: 150mA; Preset Vout Values (V): 3.0; Supply Current IGND @ Small Load: 10uA; Vin (max) (V): 5.5; Vin (min) (V): 2.2; DatasheetVersion: Rev. A; PackageVersion: 100708-A, 10/2008; PackageReference: UJ-5; PackageDescription: 5-Pin Thin Small Outline Transistor Package, Body 2.9 x 1.6 mm, Pitch 0.95 mm; Supplier 1: Digi-Key; Supplier Part Number 1: ADP150AUJZ-3.0-R7TR-ND; Supplier 2: Digi-Key; Supplier Part Number 2: ADP150AUJZ-3.0-R7CT-ND; Supplier 3: Digi-Key; Supplier Part Number 3: ADP150AUJZ-3.0-R7DKR-ND; Supplier 4: Farnell; Supplier Part Number 4: 2376919; Supplier 5: Farnell; Supplier Part Number 5: 2370017; Supplier 6: Farnell; Supplier Part Number 6: 2148819; Supplier 7: Newark; Supplier Part Number 7: 24W8479; Supplier 8: Newark; Supplier Part Number 8: 52R8083; Supplier 9: Mouser; Supplier Part Number 9: 584-ADP150AUJZ-3.0R7; Packing: Reel; Mounting Technology: Surface Mount; Code_JEDEC: MO-193-AB; ComponentLink1Description: Manufacturer URL; ComponentLink1URL: http://www.analog.com/en/index.html; ComponentLink2Description: Datasheet; ComponentLink2URL: http://www.analog.com/static/imported-files/data_sheets/ADP150.pdf; ComponentLink3Description: Package Specification; ComponentLink3URL: http:/www.analog.com/static/imported-files/packages/PKG_PDF/TSOT(UJ)/UJ_5.pdf; ComponentLink4Description: URL Link1; ComponentLink4URL: Product URL:http://www.analog.com/en/ADP150/productSearch.html
footprint ADI-UJ-5_N (SOT23, 5-Leads, Body 2.9x1.6mm, Pitch 0.95mm, IPC Medium Density)
footprint ADI-UJ-5_L (SOT23, 5-Leads, Body 2.9x1.6mm, Pitch 0.95mm, IPC High Density)
footprint ADI-UJ-5_M (SOT23, 5-Leads, Body 2.9x1.6mm, Pitch 0.95mm, IPC Low Density)
pins: 1 VIN (power) "Regulator Input Supply. Bypass VIN to GND with a capacitor of at least 1 uF.", 2 GND (power) "Ground.", 3 EN (in) "Enable Input. Drive EN high to turn on the regulator; drive EN low to turn off the regulator. For automatic startup, connect EN to VIN.", 4 NC "No Connect. These pins are not internally bonded. They can be left floating or connected to ground.", 5 VOUT (power) "Regulated Output Voltage. Bypass VOUT to GND with a capacitor of at least 1 uF."

## ADP150AUJZ-3.3-R7
designator U?
Ultralow Noise, 150 mA CMOS Linear Regulator, 2.2 to 5.5 V Vin, 3.3 V Vout, Industrial, 5-pin SOT23 (UJ-5), Reel; Manufacturer: Analog Devices; PartNumber: ADP150AUJZ-3.3-R7; Iout max: 150mA; Preset Vout Values (V): 3.3; Supply Current IGND @ Small Load: 10uA; Vin (max) (V): 5.5; Vin (min) (V): 2.2; DatasheetVersion: Rev. A; PackageVersion: 100708-A, 10/2008; PackageReference: UJ-5; PackageDescription: 5-Pin Thin Small Outline Transistor Package, Body 2.9 x 1.6 mm, Pitch 0.95 mm; Supplier 1: Digi-Key; Supplier Part Number 1: ADP150AUJZ-3.3-R7TR-ND; Supplier 2: Digi-Key; Supplier Part Number 2: ADP150AUJZ-3.3-R7CT-ND; Supplier 3: Digi-Key; Supplier Part Number 3: ADP150AUJZ-3.3-R7DKR-ND; Supplier 4: Farnell; Supplier Part Number 4: 1786853; Supplier 5: Newark; Supplier Part Number 5: 60R3276; Supplier 6: Newark; Supplier Part Number 6: 52R8084; Supplier 7: Mouser; Supplier Part Number 7: 584-ADP150AUJZ-3.3R7; Packing: Reel; Mounting Technology: Surface Mount; Code_JEDEC: MO-193-AB; ComponentLink1Description: Manufacturer URL; ComponentLink1URL: http://www.analog.com/en/index.html; ComponentLink2Description: Datasheet; ComponentLink2URL: http://www.analog.com/static/imported-files/data_sheets/ADP150.pdf; ComponentLink3Description: Package Specification; ComponentLink3URL: http:/www.analog.com/static/imported-files/packages/PKG_PDF/TSOT(UJ)/UJ_5.pdf; ComponentLink4Description: URL Link1; ComponentLink4URL: Product URL:http://www.analog.com/en/ADP150/productSearch.html
footprint ADI-UJ-5_N (SOT23, 5-Leads, Body 2.9x1.6mm, Pitch 0.95mm, IPC Medium Density)
footprint ADI-UJ-5_L (SOT23, 5-Leads, Body 2.9x1.6mm, Pitch 0.95mm, IPC High Density)
footprint ADI-UJ-5_M (SOT23, 5-Leads, Body 2.9x1.6mm, Pitch 0.95mm, IPC Low Density)
pins: 1 VIN (power) "Regulator Input Supply. Bypass VIN to GND with a capacitor of at least 1 uF.", 2 GND (power) "Ground.", 3 EN (in) "Enable Input. Drive EN high to turn on the regulator; drive EN low to turn off the regulator. For automatic startup, connect EN to VIN.", 4 NC "No Connect. These pins are not internally bonded. They can be left floating or connected to ground.", 5 VOUT (power) "Regulated Output Voltage. Bypass VOUT to GND with a capacitor of at least 1 uF."

## ADP151ACBZ-1.1-R7
designator U?
Ultralow Noise, 200 mA, CMOS Linear Regulator, 2.2 to 5.5 V Vin, 1.1 V Vout, Industrial, 4-pin BGA (CB-4-3), Reel; Manufacturer: Analog Devices; PartNumber: ADP151ACBZ-1.1-R7; Iout max: 200mA; Preset Vout Values (V): 1.1; Supply Current IGND @ Small Load: 10uA; Vin (max) (V): 5.5; Vin (min) (V): 2.2; DatasheetVersion: Rev. E; PackageVersion: 011409-A, 01/2009; PackageReference: CB-4-3; PackageDescription: 4-Ball Wafer Level Chip Scale Package, Body 0.76 x 0.76 mm, Pitch 0.4 mm; Supplier 1: Digi-Key; Supplier Part Number 1: ADP151ACBZ-1.1-R7TR-ND; Supplier 2: Digi-Key; Supplier Part Number 2: ADP151ACBZ-1.1-R7CT-ND; Supplier 3: Digi-Key; Supplier Part Number 3: ADP151ACBZ-1.1-R7DKR-ND; Supplier 4: Mouser; Supplier Part Number 4: 584-ADP151ACBZ-1.1R7; Packing: Reel; Mounting Technology: Surface Mount; ComponentLink1Description: Manufacturer URL; ComponentLink1URL: http://www.analog.com/en/index.html; ComponentLink2Description: Datasheet; ComponentLink2URL: http://www.analog.com/static/imported-files/data_sheets/ADP151.pdf; ComponentLink3Description: Package Specification; ComponentLink3URL: http:/www.analog.com/static/imported-files/packages/PKG_PDF/WLCSP(CB)/CB_4_3.pdf; ComponentLink4Description: URL Link1; ComponentLink4URL: Product URL:http://www.analog.com/en/ADP151/productSearch.html
footprint ADI-CB-4-3 (BGA, 4-Balls, Body 0.76x0.76mm, Pitch 0.4mm)
pins: A1 VIN (power) "Regulator Input Supply. Bypass VIN to GND with a 1 uF or greater capacitor", A2 VOUT (power) "Regulated Output Voltage. Bypass VOUT to GND with a 1 uF or greater capacitor", B1 EN (in) "Enable Input. Drive EN high to turn on the regulator; drive EN low to turn off the regulator. For automatic startup, connect EN to VIN.", B2 GND (power) "Ground"